# EAGLE library part 690368180672 (library Wuerth_Elektronik_eiCan_MiniModule_Connectors_v1.2)
WR-MM Female Angled Connector without Latch and without Polarization, 6 Pins
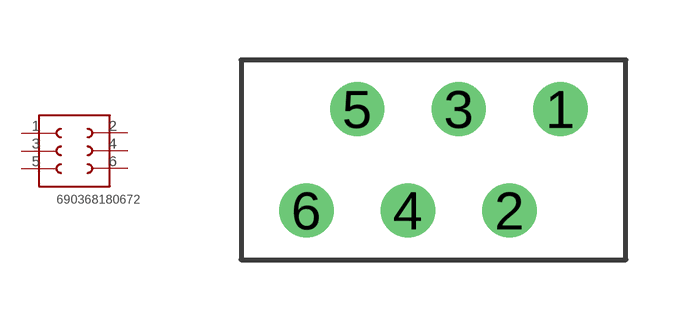
[diagram p12: symbol with the pads of 690368180672; footprint 690368180672]

Designator prefix K

## 690368180672  [690368180672]
1  1  pas
2  6  pas
3  2  pas
4  5  pas
5  3  pas
6  4  pas

## Footprint 690368180672 (pad centres in mm)
WR-MM Female Angled Connector without Latch and without Polarization, 6 Pins
drill 0.85 round: 1 1.905,1.27; 2 0.635,-1.27; 3 -0.635,1.27; 4 -1.905,-1.27; 5 -3.175,1.27; 6 -4.445,-1.27